# Altium integrated library Analog Devices Data Converters Digital-to-Analog Converters.IntLib: 2231 symbols (part 98 of 181)
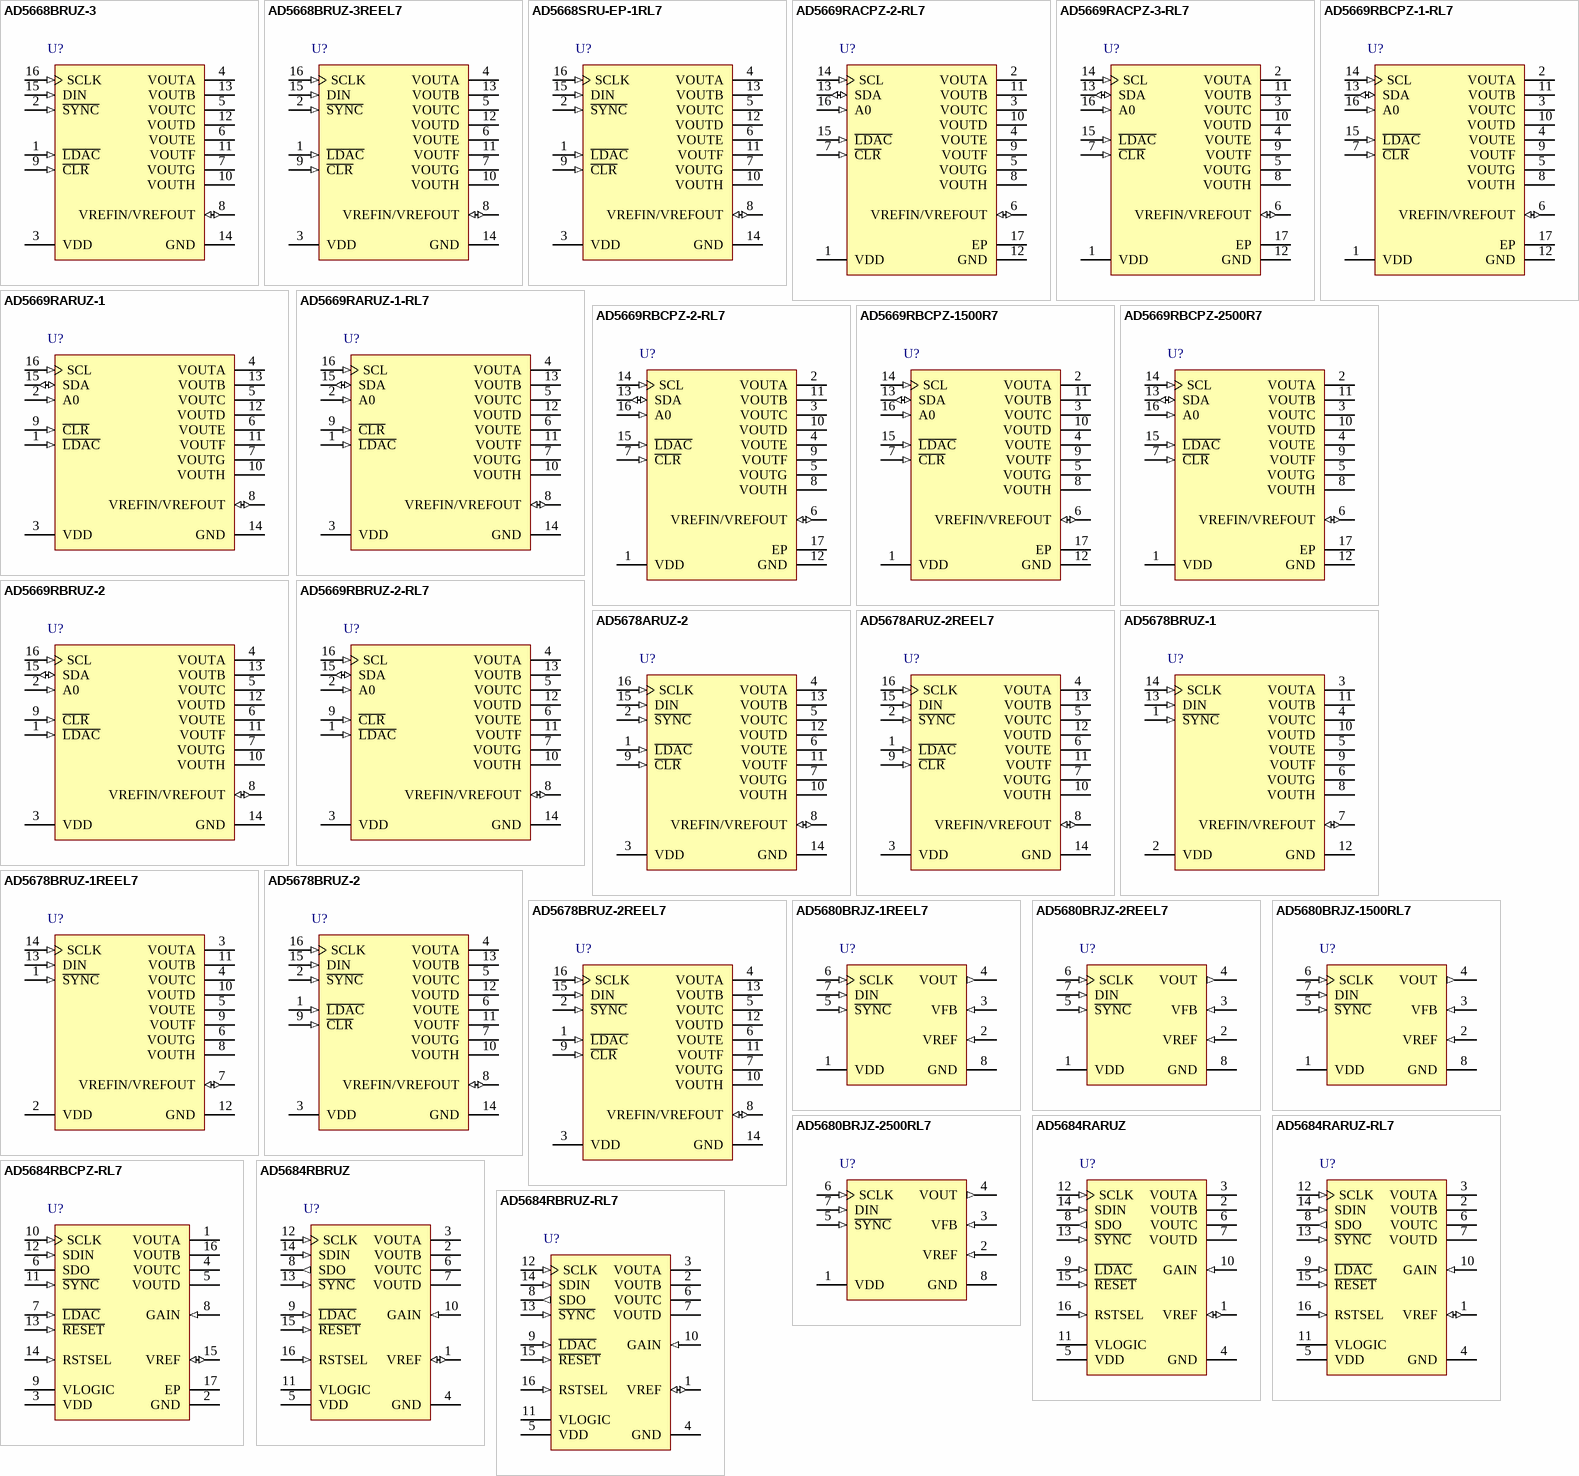
[diagram p211: symbols AD5668BRUZ-3 to AD5684RBRUZ-RL7]

## AD5678BRUZ-2
designator U?
Octal Quad 12-Bit and Quad 16-Bit Digital-to-Analog Converter with On-Chip Reference, -40 to +105 degC, RU-16, Pb-Free, Tube; Generic Part Number: AD5678; Manufacturer: Analog Devices; PartNumber: AD5678BRUZ-2; # DAC Outputs: 8; Max V+: 5.5V; Op Pwr Diss: 12.5mW; Resolution (Bits): 16; Settling Time: 6µs; Single Supply: Yes; DatasheetVersion: Rev.C; PackageVersion: Nov-2002; PackageReference: RU-16; PackageDescription: 16-Lead Thin Shrink Small Outline Package [TSSOP]; Supplier 1: Digi-Key; Supplier Part Number 1: AD5678BRUZ-2-ND; Supplier 2: Farnell; Supplier Part Number 2: 1438927; Supplier 3: Newark; Supplier Part Number 3: 15P0716; Supplier 4: Mouser; Supplier Part Number 4: 584-AD5678BRUZ-2; Packing: Tube; RoHS: Y; Mounting Technology: Surface Mount; Code_JEDEC: MO-153-AB; ComponentLink1Description: Manufacturer URL; ComponentLink1URL: http://www.analog.com/en/index.html; ComponentLink2Description: Datasheet; ComponentLink2URL: http://www.analog.com/static/imported-files/data_sheets/AD5678.pdf; ComponentLink3Description: Package Specification; ComponentLink3URL: http://www.analog.com/static/imported-files/packages/36244347913743854010197452789RU16.pdf; ComponentLink4Description: Product URL; ComponentLink4URL: http://www.analog.com/en/digital-to-analog-converters/da-converters/ad5678/products/product.html
footprint RU-16_N (TSOP, 16-Leads, Body 5x4.4mm, Pitch 0.65mm, IPC Medium Density)
footprint RU-16_L (TSOP, 16-Leads, Body 5x4.4mm, Pitch 0.65mm, IPC High Density)
footprint RU-16_M (TSOP, 16-Leads, Body 5x4.4mm, Pitch 0.65mm, IPC Low Density)
pins: 1 ~{LDAC} (in) "Pulsing this pin low allows any or all DAC registers to be updated if the input registers have new data. This allows all DAC outputs to simultaneously update. Alternatively, this pin can be tied permanently low.", 2 ~{SYNC} (in) "Active Low Control Input. This is the frame synchronization signal for the input data. When S\Y\N\C\ goes low, it powers on the SCLK and DIN buffers and enables the input shift register. Data is transferred in on the falling (See Datasheet)", 3 VDD (power) "Power Supply Input. These parts can be operated from 2.7 V to 5.5 V, and the supply should be decoupled with a 10 uF capacitor in parallel with a 0.1 uF capacitor to GND.", 4 VOUTA (hiz) "Analog Output Voltage from DAC A. The output amplifier has rail-to-rail operation.", 5 VOUTC (hiz) "Analog Output Voltage from DAC C. The output amplifier has rail-to-rail operation.", 6 VOUTE (hiz) "Analog Output Voltage from DAC E. The output amplifier has rail-to-rail operation.", 7 VOUTG (hiz) "Analog Output Voltage from DAC G. The output amplifier has rail-to-rail operation.", 8 VREFIN/VREFOUT (io) "The AD5678 has a common pin for reference input and reference output. When using the internal reference, this is the reference output pin. When using an external reference, this is the reference input pin. The default for (See Datasheet)", 9 ~{CLR} (in) "Asynchronous Clear Input. The C\L\R\ input is falling edge sensitive. When C\L\R\ is low, all L\D\A\C\ pulses are ignored. When C\L\R\ is activated, the input register and the DAC register are updated with the data contained (See Datasheet)", 10 VOUTH (hiz) "Analog Output Voltage from DAC H. The output amplifier has rail-to-rail operation.", 11 VOUTF (hiz) "Analog Output Voltage from DAC F. The output amplifier has rail-to-rail operation.", 12 VOUTD (hiz) "Analog Output Voltage from DAC D. The output amplifier has rail-to-rail operation.", 13 VOUTB (hiz) "Analog Output Voltage from DAC B. The output amplifier has rail-to-rail operation.", 14 GND (power) "Ground Reference Point for All Circuitry on the Part.", 15 DIN (in) "Serial Data Input. This device has a 32-bit shift register. Data is clocked into the register on the falling edge of the serial clock input.", 16 SCLK (in) "Serial Clock Input. Data is clocked into the input shift register on the falling edge of the serial clock input. Data can be transferred at rates of up to 50 MHz."

## AD5678BRUZ-2REEL7
designator U?
Octal Quad 12-Bit and Quad 16-Bit Digital-to-Analog Converter with On-Chip Reference, -40 to +105 degC, RU-16, Pb-Free, Reel; Generic Part Number: AD5678; Manufacturer: Analog Devices; PartNumber: AD5678BRUZ-2REEL7; # DAC Outputs: 8; Max V+: 5.5V; Op Pwr Diss: 12.5mW; Resolution (Bits): 16; Settling Time: 6µs; Single Supply: Yes; DatasheetVersion: Rev.C; PackageVersion: Nov-2002; PackageReference: RU-16; PackageDescription: 16-Lead Thin Shrink Small Outline Package [TSSOP]; Supplier 1: Digi-Key; Supplier Part Number 1: AD5678BRUZ-2REEL7-ND; Supplier 2: Mouser; Supplier Part Number 2: 584-AD5678BRUZ-2R7; Packing: Reel; RoHS: Y; Mounting Technology: Surface Mount; Code_JEDEC: MO-153-AB; ComponentLink1Description: Manufacturer URL; ComponentLink1URL: http://www.analog.com/en/index.html; ComponentLink2Description: Datasheet; ComponentLink2URL: http://www.analog.com/static/imported-files/data_sheets/AD5678.pdf; ComponentLink3Description: Package Specification; ComponentLink3URL: http://www.analog.com/static/imported-files/packages/36244347913743854010197452789RU16.pdf; ComponentLink4Description: Product URL; ComponentLink4URL: http://www.analog.com/en/digital-to-analog-converters/da-converters/ad5678/products/product.html
footprint RU-16_N (TSOP, 16-Leads, Body 5x4.4mm, Pitch 0.65mm, IPC Medium Density)
footprint RU-16_L (TSOP, 16-Leads, Body 5x4.4mm, Pitch 0.65mm, IPC High Density)
footprint RU-16_M (TSOP, 16-Leads, Body 5x4.4mm, Pitch 0.65mm, IPC Low Density)
pins: 1 ~{LDAC} (in) "Pulsing this pin low allows any or all DAC registers to be updated if the input registers have new data. This allows all DAC outputs to simultaneously update. Alternatively, this pin can be tied permanently low.", 2 ~{SYNC} (in) "Active Low Control Input. This is the frame synchronization signal for the input data. When S\Y\N\C\ goes low, it powers on the SCLK and DIN buffers and enables the input shift register. Data is transferred in on the falling (See Datasheet)", 3 VDD (power) "Power Supply Input. These parts can be operated from 2.7 V to 5.5 V, and the supply should be decoupled with a 10 uF capacitor in parallel with a 0.1 uF capacitor to GND.", 4 VOUTA (hiz) "Analog Output Voltage from DAC A. The output amplifier has rail-to-rail operation.", 5 VOUTC (hiz) "Analog Output Voltage from DAC C. The output amplifier has rail-to-rail operation.", 6 VOUTE (hiz) "Analog Output Voltage from DAC E. The output amplifier has rail-to-rail operation.", 7 VOUTG (hiz) "Analog Output Voltage from DAC G. The output amplifier has rail-to-rail operation.", 8 VREFIN/VREFOUT (io) "The AD5678 has a common pin for reference input and reference output. When using the internal reference, this is the reference output pin. When using an external reference, this is the reference input pin. The default for (See Datasheet)", 9 ~{CLR} (in) "Asynchronous Clear Input. The C\L\R\ input is falling edge sensitive. When C\L\R\ is low, all L\D\A\C\ pulses are ignored. When C\L\R\ is activated, the input register and the DAC register are updated with the data contained (See Datasheet)", 10 VOUTH (hiz) "Analog Output Voltage from DAC H. The output amplifier has rail-to-rail operation.", 11 VOUTF (hiz) "Analog Output Voltage from DAC F. The output amplifier has rail-to-rail operation.", 12 VOUTD (hiz) "Analog Output Voltage from DAC D. The output amplifier has rail-to-rail operation.", 13 VOUTB (hiz) "Analog Output Voltage from DAC B. The output amplifier has rail-to-rail operation.", 14 GND (power) "Ground Reference Point for All Circuitry on the Part.", 15 DIN (in) "Serial Data Input. This device has a 32-bit shift register. Data is clocked into the register on the falling edge of the serial clock input.", 16 SCLK (in) "Serial Clock Input. Data is clocked into the input shift register on the falling edge of the serial clock input. Data can be transferred at rates of up to 50 MHz."

## AD5680BRJZ-1REEL7
designator U?
Single 18-Bit nanoDAC, 5 V, -40 to +105 degC, RJ-8, Pb-Free, Reel; Generic Part Number: AD5680; Manufacturer: Analog Devices; PartNumber: AD5680BRJZ-1REEL7; # DAC Outputs: 1; Max V+: 5.5V; Op Pwr Diss: 2.25mW; Resolution (Bits): 18; Settling Time: 80µs; Single Supply: Yes; DatasheetVersion: Rev.A; PackageVersion: 121608-A; PackageReference: RJ-8; PackageDescription: 8-Lead Thin Small Outline Transistor Package [SOT-23]; Supplier 1: Mouser; Supplier Part Number 1: N/A; Packing: Reel; RoHS: Y; Mounting Technology: Surface Mount; Code_JEDEC: MO-178-BA; ComponentLink1Description: Manufacturer URL; ComponentLink1URL: http://www.analog.com/en/index.html; ComponentLink2Description: Datasheet; ComponentLink2URL: http://www.analog.com/static/imported-files/data_sheets/AD5680.pdf; ComponentLink3Description: Package Specification; ComponentLink3URL: http://www.analog.com/static/imported-files/packages/PKG_PDF/SOT-23(RJ)/RJ_8.pdf; ComponentLink4Description: Product URL; ComponentLink4URL: http://www.analog.com/en/digital-to-analog-converters/da-converters/ad5680/products/product.html
footprint RJ-8_N (SOP, 8-Leads, Body 2.9x1.6mm, Pitch 0.65mm, IPC Medium Density)
footprint RJ-8_L (SOP, 8-Leads, Body 2.9x1.6mm, Pitch 0.65mm, IPC High Density)
footprint RJ-8_M (SOP, 8-Leads, Body 2.9x1.6mm, Pitch 0.65mm, IPC Low Density)
pins: 1 VDD (power) "Power Supply Input. The part can be operated from 4.5 V to 5.5 V. VDD should be decoupled to GND.", 2 VREF (in) "Reference Voltage Input.", 3 VFB (in) "Feedback Connection for the Output Amplifier. VFB should be connected to VOUT for normal operation.", 4 VOUT (out) "Analog Output Voltage from DAC. The output amplifier has rail-to-rail operation.", 5 ~{SYNC} (in) "Level-Triggered Control Input (Active Low). This is the frame synchronization signal for the input data. When S\Y\N\C\ goes low, it enables the input shift register and data is transferred in on the falling edges of the (See Datasheet)", 6 SCLK (in) "Serial Clock Input. Data is clocked into the input shift register on the falling edge of the serial clock input. Data can be transferred at rates up to 30 MHz.", 7 DIN (in) "Serial Data Input. This device has a 24-bit shift register. Data is clocked into the register on the falling edge of the serial clock input.", 8 GND (power) "Ground. Ground reference point for all circuitry on the part."

## AD5680BRJZ-2REEL7
designator U?
Single 18-Bit nanoDAC, 5 V, -40 to +105 degC, RJ-8, Pb-Free, Reel; Generic Part Number: AD5680; Manufacturer: Analog Devices; PartNumber: AD5680BRJZ-2REEL7; # DAC Outputs: 1; Max V+: 5.5V; Op Pwr Diss: 2.25mW; Resolution (Bits): 18; Settling Time: 80µs; Single Supply: Yes; DatasheetVersion: Rev.A; PackageVersion: 121608-A; PackageReference: RJ-8; PackageDescription: 8-Lead Thin Small Outline Transistor Package [SOT-23]; Supplier 1: Digi-Key; Supplier Part Number 1: AD5680BRJZ-2REEL7TR-ND; Supplier 2: Digi-Key; Supplier Part Number 2: AD5680BRJZ-2REEL7CT-ND; Supplier 3: Digi-Key; Supplier Part Number 3: AD5680BRJZ-2REEL7DKR-ND; Supplier 4: Farnell; Supplier Part Number 4: 2314133; Supplier 5: Newark; Supplier Part Number 5: 67W3169; Supplier 6: Newark; Supplier Part Number 6: 12M8677; Supplier 7: Mouser; Supplier Part Number 7: 584-AD5680BRJZ-2R7; Packing: Reel; RoHS: Y; Mounting Technology: Surface Mount; Code_JEDEC: MO-178-BA; ComponentLink1Description: Manufacturer URL; ComponentLink1URL: http://www.analog.com/en/index.html; ComponentLink2Description: Datasheet; ComponentLink2URL: http://www.analog.com/static/imported-files/data_sheets/AD5680.pdf; ComponentLink3Description: Package Specification; ComponentLink3URL: http://www.analog.com/static/imported-files/packages/PKG_PDF/SOT-23(RJ)/RJ_8.pdf; ComponentLink4Description: Product URL; ComponentLink4URL: http://www.analog.com/en/digital-to-analog-converters/da-converters/ad5680/products/product.html
footprint RJ-8_N (SOP, 8-Leads, Body 2.9x1.6mm, Pitch 0.65mm, IPC Medium Density)
footprint RJ-8_L (SOP, 8-Leads, Body 2.9x1.6mm, Pitch 0.65mm, IPC High Density)
footprint RJ-8_M (SOP, 8-Leads, Body 2.9x1.6mm, Pitch 0.65mm, IPC Low Density)
pins: 1 VDD (power) "Power Supply Input. The part can be operated from 4.5 V to 5.5 V. VDD should be decoupled to GND.", 2 VREF (in) "Reference Voltage Input.", 3 VFB (in) "Feedback Connection for the Output Amplifier. VFB should be connected to VOUT for normal operation.", 4 VOUT (out) "Analog Output Voltage from DAC. The output amplifier has rail-to-rail operation.", 5 ~{SYNC} (in) "Level-Triggered Control Input (Active Low). This is the frame synchronization signal for the input data. When S\Y\N\C\ goes low, it enables the input shift register and data is transferred in on the falling edges of the (See Datasheet)", 6 SCLK (in) "Serial Clock Input. Data is clocked into the input shift register on the falling edge of the serial clock input. Data can be transferred at rates up to 30 MHz.", 7 DIN (in) "Serial Data Input. This device has a 24-bit shift register. Data is clocked into the register on the falling edge of the serial clock input.", 8 GND (power) "Ground. Ground reference point for all circuitry on the part."

## AD5680BRJZ-1500RL7
designator U?
Single 18-Bit nanoDAC, 5 V, -40 to +105 degC, RJ-8, Pb-Free, Reel; Generic Part Number: AD5680; Manufacturer: Analog Devices; PartNumber: AD5680BRJZ-1500RL7; # DAC Outputs: 1; Max V+: 5.5V; Op Pwr Diss: 2.25mW; Resolution (Bits): 18; Settling Time: 80µs; Single Supply: Yes; DatasheetVersion: Rev.A; PackageVersion: 121608-A; PackageReference: RJ-8; PackageDescription: 8-Lead Thin Small Outline Transistor Package [SOT-23]; Supplier 1: Digi-Key; Supplier Part Number 1: AD5680BRJZ-1500RL7TR-ND; Supplier 2: Digi-Key; Supplier Part Number 2: AD5680BRJZ-1500RL7CT-ND; Supplier 3: Digi-Key; Supplier Part Number 3: AD5680BRJZ-1500RL7DKR-ND; Supplier 4: Mouser; Supplier Part Number 4: 584-AD5680BRJZ1500R7; Packing: Reel; RoHS: Y; Mounting Technology: Surface Mount; Code_JEDEC: MO-178-BA; ComponentLink1Description: Manufacturer URL; ComponentLink1URL: http://www.analog.com/en/index.html; ComponentLink2Description: Datasheet; ComponentLink2URL: http://www.analog.com/static/imported-files/data_sheets/AD5680.pdf; ComponentLink3Description: Package Specification; ComponentLink3URL: http://www.analog.com/static/imported-files/packages/PKG_PDF/SOT-23(RJ)/RJ_8.pdf; ComponentLink4Description: Product URL; ComponentLink4URL: http://www.analog.com/en/digital-to-analog-converters/da-converters/ad5680/products/product.html
footprint RJ-8_N (SOP, 8-Leads, Body 2.9x1.6mm, Pitch 0.65mm, IPC Medium Density)
footprint RJ-8_L (SOP, 8-Leads, Body 2.9x1.6mm, Pitch 0.65mm, IPC High Density)
footprint RJ-8_M (SOP, 8-Leads, Body 2.9x1.6mm, Pitch 0.65mm, IPC Low Density)
pins: 1 VDD (power) "Power Supply Input. The part can be operated from 4.5 V to 5.5 V. VDD should be decoupled to GND.", 2 VREF (in) "Reference Voltage Input.", 3 VFB (in) "Feedback Connection for the Output Amplifier. VFB should be connected to VOUT for normal operation.", 4 VOUT (out) "Analog Output Voltage from DAC. The output amplifier has rail-to-rail operation.", 5 ~{SYNC} (in) "Level-Triggered Control Input (Active Low). This is the frame synchronization signal for the input data. When S\Y\N\C\ goes low, it enables the input shift register and data is transferred in on the falling edges of the (See Datasheet)", 6 SCLK (in) "Serial Clock Input. Data is clocked into the input shift register on the falling edge of the serial clock input. Data can be transferred at rates up to 30 MHz.", 7 DIN (in) "Serial Data Input. This device has a 24-bit shift register. Data is clocked into the register on the falling edge of the serial clock input.", 8 GND (power) "Ground. Ground reference point for all circuitry on the part."

## AD5680BRJZ-2500RL7
designator U?
Single 18-Bit nanoDAC, 5 V, -40 to +105 degC, RJ-8, Pb-Free, Reel; Generic Part Number: AD5680; Manufacturer: Analog Devices; PartNumber: AD5680BRJZ-2500RL7; # DAC Outputs: 1; Max V+: 5.5V; Op Pwr Diss: 2.25mW; Resolution (Bits): 18; Settling Time: 80µs; Single Supply: Yes; DatasheetVersion: Rev.A; PackageVersion: 121608-A; PackageReference: RJ-8; PackageDescription: 8-Lead Thin Small Outline Transistor Package [SOT-23]; Supplier 1: Digi-Key; Supplier Part Number 1: AD5680BRJZ-2500RL7TR-ND; Supplier 2: Digi-Key; Supplier Part Number 2: AD5680BRJZ-2500RL7CT-ND; Supplier 3: Digi-Key; Supplier Part Number 3: AD5680BRJZ-2500RL7DKR-ND; Supplier 4: Newark; Supplier Part Number 4: 12M8678; Supplier 5: Mouser; Supplier Part Number 5: 584-AD5680BRJZ2500R7; Packing: Reel; RoHS: Y; Mounting Technology: Surface Mount; Code_JEDEC: MO-178-BA; ComponentLink1Description: Manufacturer URL; ComponentLink1URL: http://www.analog.com/en/index.html; ComponentLink2Description: Datasheet; ComponentLink2URL: http://www.analog.com/static/imported-files/data_sheets/AD5680.pdf; ComponentLink3Description: Package Specification; ComponentLink3URL: http://www.analog.com/static/imported-files/packages/PKG_PDF/SOT-23(RJ)/RJ_8.pdf; ComponentLink4Description: Product URL; ComponentLink4URL: http://www.analog.com/en/digital-to-analog-converters/da-converters/ad5680/products/product.html
footprint RJ-8_N (SOP, 8-Leads, Body 2.9x1.6mm, Pitch 0.65mm, IPC Medium Density)
footprint RJ-8_L (SOP, 8-Leads, Body 2.9x1.6mm, Pitch 0.65mm, IPC High Density)
footprint RJ-8_M (SOP, 8-Leads, Body 2.9x1.6mm, Pitch 0.65mm, IPC Low Density)
pins: 1 VDD (power) "Power Supply Input. The part can be operated from 4.5 V to 5.5 V. VDD should be decoupled to GND.", 2 VREF (in) "Reference Voltage Input.", 3 VFB (in) "Feedback Connection for the Output Amplifier. VFB should be connected to VOUT for normal operation.", 4 VOUT (out) "Analog Output Voltage from DAC. The output amplifier has rail-to-rail operation.", 5 ~{SYNC} (in) "Level-Triggered Control Input (Active Low). This is the frame synchronization signal for the input data. When S\Y\N\C\ goes low, it enables the input shift register and data is transferred in on the falling edges of the (See Datasheet)", 6 SCLK (in) "Serial Clock Input. Data is clocked into the input shift register on the falling edge of the serial clock input. Data can be transferred at rates up to 30 MHz.", 7 DIN (in) "Serial Data Input. This device has a 24-bit shift register. Data is clocked into the register on the falling edge of the serial clock input.", 8 GND (power) "Ground. Ground reference point for all circuitry on the part."

## AD5684RARUZ
designator U?
Quad 12-Bit nanoDAC+ with SPI Interface and 2 ppm/degC On-Chip Reference, -40 to +105 degC, RU-16, Pb-Free, Tube; Generic Part Number: AD5684R; Manufacturer: Analog Devices; PartNumber: AD5684RARUZ; # DAC Outputs: 4; Max V+: 5.5V; Resolution (Bits): 12; Settling Time: 5µs; Single Supply: Yes; DatasheetVersion: Rev.0; PackageVersion: Nov-2002; PackageReference: RU-16; PackageDescription: 16-Lead Thin Shrink Small Outline Package [TSSOP]; Supplier 1: Digi-Key; Supplier Part Number 1: AD5684RARUZ-ND; Supplier 2: Farnell; Supplier Part Number 2: 2112657; Supplier 3: Newark; Supplier Part Number 3: 94T0022; Supplier 4: Mouser; Supplier Part Number 4: 584-AD5684RARUZ; Packing: Tube; RoHS: Y; Mounting Technology: Surface Mount; Code_JEDEC: MO-153-AB; ComponentLink1Description: Manufacturer URL; ComponentLink1URL: http://www.analog.com/en/index.html; ComponentLink2Description: Datasheet; ComponentLink2URL: http://www.analog.com/static/imported-files/data_sheets/AD5686R_AD5685R_AD5684R.pdf; ComponentLink3Description: Package Specification; ComponentLink3URL: http://www.analog.com/static/imported-files/packages/36244347913743854010197452789RU16.pdf; ComponentLink4Description: Product URL; ComponentLink4URL: http://www.analog.com/en/digital-to-analog-converters/da-converters/ad5684r/products/product.html
footprint RU-16_N (TSOP, 16-Leads, Body 5x4.4mm, Pitch 0.65mm, IPC Medium Density)
footprint RU-16_L (TSOP, 16-Leads, Body 5x4.4mm, Pitch 0.65mm, IPC High Density)
footprint RU-16_M (TSOP, 16-Leads, Body 5x4.4mm, Pitch 0.65mm, IPC Low Density)
pins: 1 VREF (io) "Reference Voltage. The AD5684R have a common reference pin. When using the internal reference, this is the reference output pin. When using an external reference, this is the reference input pin. The default for this pin is (See Datasheet)", 2 VOUTB (hiz) "Analog Output Voltage from DAC B. The output amplifier has rail-to-rail operation.", 3 VOUTA (hiz) "Analog Output Voltage from DAC A. The output amplifier has rail-to-rail operation.", 4 GND (power) "Ground Reference Point for All Circuitry on the Part.", 5 VDD (power) "Power Supply Input. These parts can be operated from 2.7 V to 5.5 V, and the supply should be decoupled with a 10 uF capacitor in parallel with a 0.1 uF capacitor to GND.", 6 VOUTC (hiz) "Analog Output Voltage from DAC C. The output amplifier has rail-to-rail operation.", 7 VOUTD (hiz) "Analog Output Voltage from DAC D. The output amplifier has rail-to-rail operation.", 8 SDO (out) "Serial Data Output. Can be used to daisy-chain a number of AD5684R devices together or can be used for readback. The serial data is transferred on the rising edge of SCLK and is valid on the falling edge of the clock.", 9 ~{LDAC} (in) "L\D\A\C\ can be operated in two modes, asynchronously and synchronously. Pulsing this pin low allows any or all DAC registers to be updated if the input registers have new data. This allows all DAC outputs to simultaneously (See Datasheet)", 10 GAIN (in) "Span Set Pin. When this pin is tied to GND, all four DAC outputs have a span from 0 V to VREF. If this pin is tied to VDD, all four DACs output a span of 0 V to 2 x VREF.", 11 VLOGIC (power) "Digital Power Supply. Voltage ranges from 1.8 V to 5.5 V.", 12 SCLK (in) "Serial Clock Input. Data is clocked into the input shift register on the falling edge of the serial clock input. Data can be transferred at rates of up to 50 MHz.", 13 ~{SYNC} (in) "Active Low Control Input. This is the frame synchronization signal for the input data. When S\Y\N\C\ goes low, data is transferred in on the falling edges of the next 24 clocks.", 14 SDIN (in) "Serial Data Input. This device has a 24-bit input shift register. Data is clocked into the register on the falling edge of the serial clock input.", 15 ~{RESET} (in) "Asynchronous Reset Input. The R\E\S\E\T\ input is falling edge sensitive. When R\E\S\E\T\ is low, all L\D\A\C\ pulses are ignored. When R\E\S\E\T\ is activated, the input register and the DAC register are updated with zero (See Datasheet)", 16 RSTSEL (in) "Power-On Reset Pin. Tying this pin to GND powers up all four DACs to zero scale. Tying this pin to VDD powers up all four DACs to midscale."

## AD5684RARUZ-RL7
designator U?
Quad 12-Bit nanoDAC+ with SPI Interface and 2 ppm/degC On-Chip Reference, -40 to +105 degC, RU-16, Pb-Free, Reel; Generic Part Number: AD5684R; Manufacturer: Analog Devices; PartNumber: AD5684RARUZ-RL7; # DAC Outputs: 4; Max V+: 5.5V; Resolution (Bits): 12; Settling Time: 5µs; Single Supply: Yes; DatasheetVersion: Rev.0; PackageVersion: Nov-2002; PackageReference: RU-16; PackageDescription: 16-Lead Thin Shrink Small Outline Package [TSSOP]; Supplier 1: Digi-Key; Supplier Part Number 1: AD5684RARUZ-RL7-ND; Supplier 2: Mouser; Supplier Part Number 2: 584-AD5684RARUZ-R7; Packing: Reel; RoHS: Y; Mounting Technology: Surface Mount; Code_JEDEC: MO-153-AB; ComponentLink1Description: Manufacturer URL; ComponentLink1URL: http://www.analog.com/en/index.html; ComponentLink2Description: Datasheet; ComponentLink2URL: http://www.analog.com/static/imported-files/data_sheets/AD5686R_AD5685R_AD5684R.pdf; ComponentLink3Description: Package Specification; ComponentLink3URL: http://www.analog.com/static/imported-files/packages/36244347913743854010197452789RU16.pdf; ComponentLink4Description: Product URL; ComponentLink4URL: http://www.analog.com/en/digital-to-analog-converters/da-converters/ad5684r/products/product.html
footprint RU-16_N (TSOP, 16-Leads, Body 5x4.4mm, Pitch 0.65mm, IPC Medium Density)
footprint RU-16_L (TSOP, 16-Leads, Body 5x4.4mm, Pitch 0.65mm, IPC High Density)
footprint RU-16_M (TSOP, 16-Leads, Body 5x4.4mm, Pitch 0.65mm, IPC Low Density)
pins: 1 VREF (io) "Reference Voltage. The AD5684R have a common reference pin. When using the internal reference, this is the reference output pin. When using an external reference, this is the reference input pin. The default for this pin is (See Datasheet)", 2 VOUTB (hiz) "Analog Output Voltage from DAC B. The output amplifier has rail-to-rail operation.", 3 VOUTA (hiz) "Analog Output Voltage from DAC A. The output amplifier has rail-to-rail operation.", 4 GND (power) "Ground Reference Point for All Circuitry on the Part.", 5 VDD (power) "Power Supply Input. These parts can be operated from 2.7 V to 5.5 V, and the supply should be decoupled with a 10 uF capacitor in parallel with a 0.1 uF capacitor to GND.", 6 VOUTC (hiz) "Analog Output Voltage from DAC C. The output amplifier has rail-to-rail operation.", 7 VOUTD (hiz) "Analog Output Voltage from DAC D. The output amplifier has rail-to-rail operation.", 8 SDO (out) "Serial Data Output. Can be used to daisy-chain a number of AD5684R devices together or can be used for readback. The serial data is transferred on the rising edge of SCLK and is valid on the falling edge of the clock.", 9 ~{LDAC} (in) "L\D\A\C\ can be operated in two modes, asynchronously and synchronously. Pulsing this pin low allows any or all DAC registers to be updated if the input registers have new data. This allows all DAC outputs to simultaneously (See Datasheet)", 10 GAIN (in) "Span Set Pin. When this pin is tied to GND, all four DAC outputs have a span from 0 V to VREF. If this pin is tied to VDD, all four DACs output a span of 0 V to 2 x VREF.", 11 VLOGIC (power) "Digital Power Supply. Voltage ranges from 1.8 V to 5.5 V.", 12 SCLK (in) "Serial Clock Input. Data is clocked into the input shift register on the falling edge of the serial clock input. Data can be transferred at rates of up to 50 MHz.", 13 ~{SYNC} (in) "Active Low Control Input. This is the frame synchronization signal for the input data. When S\Y\N\C\ goes low, data is transferred in on the falling edges of the next 24 clocks.", 14 SDIN (in) "Serial Data Input. This device has a 24-bit input shift register. Data is clocked into the register on the falling edge of the serial clock input.", 15 ~{RESET} (in) "Asynchronous Reset Input. The R\E\S\E\T\ input is falling edge sensitive. When R\E\S\E\T\ is low, all L\D\A\C\ pulses are ignored. When R\E\S\E\T\ is activated, the input register and the DAC register are updated with zero (See Datasheet)", 16 RSTSEL (in) "Power-On Reset Pin. Tying this pin to GND powers up all four DACs to zero scale. Tying this pin to VDD powers up all four DACs to midscale."

## AD5684RBCPZ-RL7
designator U?
Quad 12-Bit nanoDAC+ with SPI Interface and 2 ppm/degC On-Chip Reference, -40 to +105 degC, CP-16-22, Pb-Free, Reel; Generic Part Number: AD5684R; Manufacturer: Analog Devices; PartNumber: AD5684RBCPZ-RL7; # DAC Outputs: 4; Max V+: 5.5V; Resolution (Bits): 12; Settling Time: 5µs; Single Supply: Yes; DatasheetVersion: Rev.0; PackageVersion: 111808-A; PackageReference: CP-16-22; PackageDescription: 16-Lead Lead Frame Chip Scale Package [LFCSP_WQ] 3 x 3 mm Body, Very Very Thin Quad; Supplier 1: Digi-Key; Supplier Part Number 1: AD5684RBCPZ-RL7TR-ND; Supplier 2: Digi-Key; Supplier Part Number 2: AD5684RBCPZ-RL7CT-ND; Supplier 3: Digi-Key; Supplier Part Number 3: AD5684RBCPZ-RL7DKR-ND; Supplier 4: Newark; Supplier Part Number 4: 94T0024; Supplier 5: Mouser; Supplier Part Number 5: 584-AD5684RBCPZ-R7; Packing: Reel; RoHS: Y; Mounting Technology: Surface Mount; Code_JEDEC: MO-220-WEED; ComponentLink1Description: Manufacturer URL; ComponentLink1URL: http://www.analog.com/en/index.html; ComponentLink2Description: Datasheet; ComponentLink2URL: http://www.analog.com/static/imported-files/data_sheets/AD5686R_AD5685R_AD5684R.pdf; ComponentLink3Description: Package Specification; ComponentLink3URL: http://www.analog.com/static/imported-files/packages/PKG_PDF/LFCSP(CP)/CP-16/CP_16_22.pdf; ComponentLink4Description: Product URL; ComponentLink4URL: http://www.analog.com/en/digital-to-analog-converters/da-converters/ad5684r/products/product.html
footprint CP-16-22_N (QFN, 16-Leads, Body 3x3mm, Pitch 0.5mm, Thermal Pad 1.75x1.75mm, IPC Medium Density)
footprint CP-16-22_L (QFN, 16-Leads, Body 3x3mm, Pitch 0.5mm, Thermal Pad 1.75x1.75mm, IPC High Density)
footprint CP-16-22_M (QFN, 16-Leads, Body 3x3mm, Pitch 0.5mm, Thermal Pad 1.75x1.75mm, IPC Low Density)
pins: 1 VOUTA (hiz) "Analog Output Voltage from DAC A. The output amplifier has rail-to-rail operation.", 2 GND (power) "Ground Reference Point for All Circuitry on the Part.", 3 VDD (power) "Power Supply Input. These parts can be operated from 2.7 V to 5.5 V, and the supply should be decoupled with a 10 uF capacitor in parallel with a 0.1 uF capacitor to GND.", 4 VOUTC (hiz) "Analog Output Voltage from DAC C. The output amplifier has rail-to-rail operation.", 5 VOUTD (hiz) "Analog Output Voltage from DAC D. The output amplifier has rail-to-rail operation.", 6 SDO (hiz) "Serial Data Output. Can be used to daisy-chain a number of AD5684R devices together or can be used for readback. The serial data is transferred on the rising edge of SCLK and is valid on the falling edge of the clock.", 7 ~{LDAC} (in) "L\D\A\C\ can be operated in two modes, asynchronously and synchronously. Pulsing this pin low allows any or all DAC registers to be updated if the input registers have new data. This allows all DAC outputs to simultaneously (See Datasheet)", 8 GAIN (in) "Span Set Pin. When this pin is tied to GND, all four DAC outputs have a span from 0 V to VREF. If this pin is tied to VDD, all four DACs output a span of 0 V to 2 x VREF.", 9 VLOGIC (power) "Digital Power Supply. Voltage ranges from 1.8 V to 5.5 V.", 10 SCLK (in) "Serial Clock Input. Data is clocked into the input shift register on the falling edge of the serial clock input. Data can be transferred at rates of up to 50 MHz.", 11 ~{SYNC} (in) "Active Low Control Input. This is the frame synchronization signal for the input data. When S\Y\N\C\ goes low, data is transferred in on the falling edges of the next 24 clocks.", 12 SDIN (in) "Serial Data Input. This device has a 24-bit input shift register. Data is clocked into the register on the falling edge of the serial clock input.", 13 ~{RESET} (in) "Asynchronous Reset Input. The R\E\S\E\T\ input is falling edge sensitive. When R\E\S\E\T\ is low, all L\D\A\C\ pulses are ignored. When R\E\S\E\T\ is activated, the input register and the DAC register are updated with zero (See Datasheet)", 14 RSTSEL (in) "Power-On Reset Pin. Tying this pin to GND powers up all four DACs to zero scale. Tying this pin to VDD powers up all four DACs to midscale.", 15 VREF (io) "Reference Voltage. The AD5684R have a common reference pin. When using the internal reference, this is the reference output pin. When using an external reference, this is the reference input pin. The default for this pin is (See Datasheet)", 16 VOUTB (hiz) "Analog Output Voltage from DAC B. The output amplifier has rail-to-rail operation.", 17 EP (power) "Exposed Pad. The exposed pad must be tied to GND."

## AD5684RBRUZ
designator U?
Quad 12-Bit nanoDAC+ with SPI Interface and 2 ppm/degC On-Chip Reference, -40 to +105 degC, RU-16, Pb-Free, Tube; Generic Part Number: AD5684R; Manufacturer: Analog Devices; PartNumber: AD5684RBRUZ; # DAC Outputs: 4; Max V+: 5.5V; Resolution (Bits): 12; Settling Time: 5µs; Single Supply: No; DatasheetVersion: Rev.0; PackageVersion: Nov-2002; PackageReference: RU-16; PackageDescription: 16-Lead Thin Shrink Small Outline Package [TSSOP]; Supplier 1: Digi-Key; Supplier Part Number 1: AD5684RBRUZ-ND; Supplier 2: Farnell; Supplier Part Number 2: 2112658; Supplier 3: Newark; Supplier Part Number 3: 94T0025; Supplier 4: Mouser; Supplier Part Number 4: 584-AD5684RBRUZ; Packing: Tube; RoHS: Y; Mounting Technology: Surface Mount; Code_JEDEC: MO-153-AB; ComponentLink1Description: Manufacturer URL; ComponentLink1URL: http://www.analog.com/en/index.html; ComponentLink2Description: Datasheet; ComponentLink2URL: http://www.analog.com/static/imported-files/data_sheets/AD5686R_AD5685R_AD5684R.pdf; ComponentLink3Description: Package Specification; ComponentLink3URL: http://www.analog.com/static/imported-files/packages/36244347913743854010197452789RU16.pdf; ComponentLink4Description: Product URL; ComponentLink4URL: http://www.analog.com/en/digital-to-analog-converters/da-converters/ad5684r/products/product.html
footprint RU-16_N (TSOP, 16-Leads, Body 5x4.4mm, Pitch 0.65mm, IPC Medium Density)
footprint RU-16_L (TSOP, 16-Leads, Body 5x4.4mm, Pitch 0.65mm, IPC High Density)
footprint RU-16_M (TSOP, 16-Leads, Body 5x4.4mm, Pitch 0.65mm, IPC Low Density)
pins: 1 VREF (io) "Reference Voltage. The AD5684R have a common reference pin. When using the internal reference, this is the reference output pin. When using an external reference, this is the reference input pin. The default for this pin is (See Datasheet)", 2 VOUTB (hiz) "Analog Output Voltage from DAC B. The output amplifier has rail-to-rail operation.", 3 VOUTA (hiz) "Analog Output Voltage from DAC A. The output amplifier has rail-to-rail operation.", 4 GND (power) "Ground Reference Point for All Circuitry on the Part.", 5 VDD (power) "Power Supply Input. These parts can be operated from 2.7 V to 5.5 V, and the supply should be decoupled with a 10 uF capacitor in parallel with a 0.1 uF capacitor to GND.", 6 VOUTC (hiz) "Analog Output Voltage from DAC C. The output amplifier has rail-to-rail operation.", 7 VOUTD (hiz) "Analog Output Voltage from DAC D. The output amplifier has rail-to-rail operation.", 8 SDO (out) "Serial Data Output. Can be used to daisy-chain a number of AD5684R devices together or can be used for readback. The serial data is transferred on the rising edge of SCLK and is valid on the falling edge of the clock.", 9 ~{LDAC} (in) "L\D\A\C\ can be operated in two modes, asynchronously and synchronously. Pulsing this pin low allows any or all DAC registers to be updated if the input registers have new data. This allows all DAC outputs to simultaneously (See Datasheet)", 10 GAIN (in) "Span Set Pin. When this pin is tied to GND, all four DAC outputs have a span from 0 V to VREF. If this pin is tied to VDD, all four DACs output a span of 0 V to 2 x VREF.", 11 VLOGIC (power) "Digital Power Supply. Voltage ranges from 1.8 V to 5.5 V.", 12 SCLK (in) "Serial Clock Input. Data is clocked into the input shift register on the falling edge of the serial clock input. Data can be transferred at rates of up to 50 MHz.", 13 ~{SYNC} (in) "Active Low Control Input. This is the frame synchronization signal for the input data. When S\Y\N\C\ goes low, data is transferred in on the falling edges of the next 24 clocks.", 14 SDIN (in) "Serial Data Input. This device has a 24-bit input shift register. Data is clocked into the register on the falling edge of the serial clock input.", 15 ~{RESET} (in) "Asynchronous Reset Input. The R\E\S\E\T\ input is falling edge sensitive. When R\E\S\E\T\ is low, all L\D\A\C\ pulses are ignored. When R\E\S\E\T\ is activated, the input register and the DAC register are updated with zero (See Datasheet)", 16 RSTSEL (in) "Power-On Reset Pin. Tying this pin to GND powers up all four DACs to zero scale. Tying this pin to VDD powers up all four DACs to midscale."

## AD5684RBRUZ-RL7
designator U?
Quad 12-Bit nanoDAC+ with SPI Interface and 2 ppm/degC On-Chip Reference, -40 to +105 degC, RU-16, Pb-Free, Reel; Generic Part Number: AD5684R; Manufacturer: Analog Devices; PartNumber: AD5684RBRUZ-RL7; # DAC Outputs: 4; Max V+: 5.5V; Resolution (Bits): 12; Settling Time: 5µs; Single Supply: No; DatasheetVersion: Rev.0; PackageVersion: Nov-2002; PackageReference: RU-16; PackageDescription: 16-Lead Thin Shrink Small Outline Package [TSSOP]; Supplier 1: Digi-Key; Supplier Part Number 1: AD5684RBRUZ-RL7-ND; Supplier 2: Mouser; Supplier Part Number 2: 584-AD5684RBRUZ-R7; Packing: Reel; RoHS: Y; Mounting Technology: Surface Mount; Code_JEDEC: MO-153-AB; ComponentLink1Description: Manufacturer URL; ComponentLink1URL: http://www.analog.com/en/index.html; ComponentLink2Description: Datasheet; ComponentLink2URL: http://www.analog.com/static/imported-files/data_sheets/AD5686R_AD5685R_AD5684R.pdf; ComponentLink3Description: Package Specification; ComponentLink3URL: http://www.analog.com/static/imported-files/packages/36244347913743854010197452789RU16.pdf; ComponentLink4Description: Product URL; ComponentLink4URL: http://www.analog.com/en/digital-to-analog-converters/da-converters/ad5684r/products/product.html
footprint RU-16_N (TSOP, 16-Leads, Body 5x4.4mm, Pitch 0.65mm, IPC Medium Density)
footprint RU-16_L (TSOP, 16-Leads, Body 5x4.4mm, Pitch 0.65mm, IPC High Density)
footprint RU-16_M (TSOP, 16-Leads, Body 5x4.4mm, Pitch 0.65mm, IPC Low Density)
pins: 1 VREF (io) "Reference Voltage. The AD5684R have a common reference pin. When using the internal reference, this is the reference output pin. When using an external reference, this is the reference input pin. The default for this pin is (See Datasheet)", 2 VOUTB (hiz) "Analog Output Voltage from DAC B. The output amplifier has rail-to-rail operation.", 3 VOUTA (hiz) "Analog Output Voltage from DAC A. The output amplifier has rail-to-rail operation.", 4 GND (power) "Ground Reference Point for All Circuitry on the Part.", 5 VDD (power) "Power Supply Input. These parts can be operated from 2.7 V to 5.5 V, and the supply should be decoupled with a 10 uF capacitor in parallel with a 0.1 uF capacitor to GND.", 6 VOUTC (hiz) "Analog Output Voltage from DAC C. The output amplifier has rail-to-rail operation.", 7 VOUTD (hiz) "Analog Output Voltage from DAC D. The output amplifier has rail-to-rail operation.", 8 SDO (out) "Serial Data Output. Can be used to daisy-chain a number of AD5684R devices together or can be used for readback. The serial data is transferred on the rising edge of SCLK and is valid on the falling edge of the clock.", 9 ~{LDAC} (in) "L\D\A\C\ can be operated in two modes, asynchronously and synchronously. Pulsing this pin low allows any or all DAC registers to be updated if the input registers have new data. This allows all DAC outputs to simultaneously (See Datasheet)", 10 GAIN (in) "Span Set Pin. When this pin is tied to GND, all four DAC outputs have a span from 0 V to VREF. If this pin is tied to VDD, all four DACs output a span of 0 V to 2 x VREF.", 11 VLOGIC (power) "Digital Power Supply. Voltage ranges from 1.8 V to 5.5 V.", 12 SCLK (in) "Serial Clock Input. Data is clocked into the input shift register on the falling edge of the serial clock input. Data can be transferred at rates of up to 50 MHz.", 13 ~{SYNC} (in) "Active Low Control Input. This is the frame synchronization signal for the input data. When S\Y\N\C\ goes low, data is transferred in on the falling edges of the next 24 clocks.", 14 SDIN (in) "Serial Data Input. This device has a 24-bit input shift register. Data is clocked into the register on the falling edge of the serial clock input.", 15 ~{RESET} (in) "Asynchronous Reset Input. The R\E\S\E\T\ input is falling edge sensitive. When R\E\S\E\T\ is low, all L\D\A\C\ pulses are ignored. When R\E\S\E\T\ is activated, the input register and the DAC register are updated with zero (See Datasheet)", 16 RSTSEL (in) "Power-On Reset Pin. Tying this pin to GND powers up all four DACs to zero scale. Tying this pin to VDD powers up all four DACs to midscale."

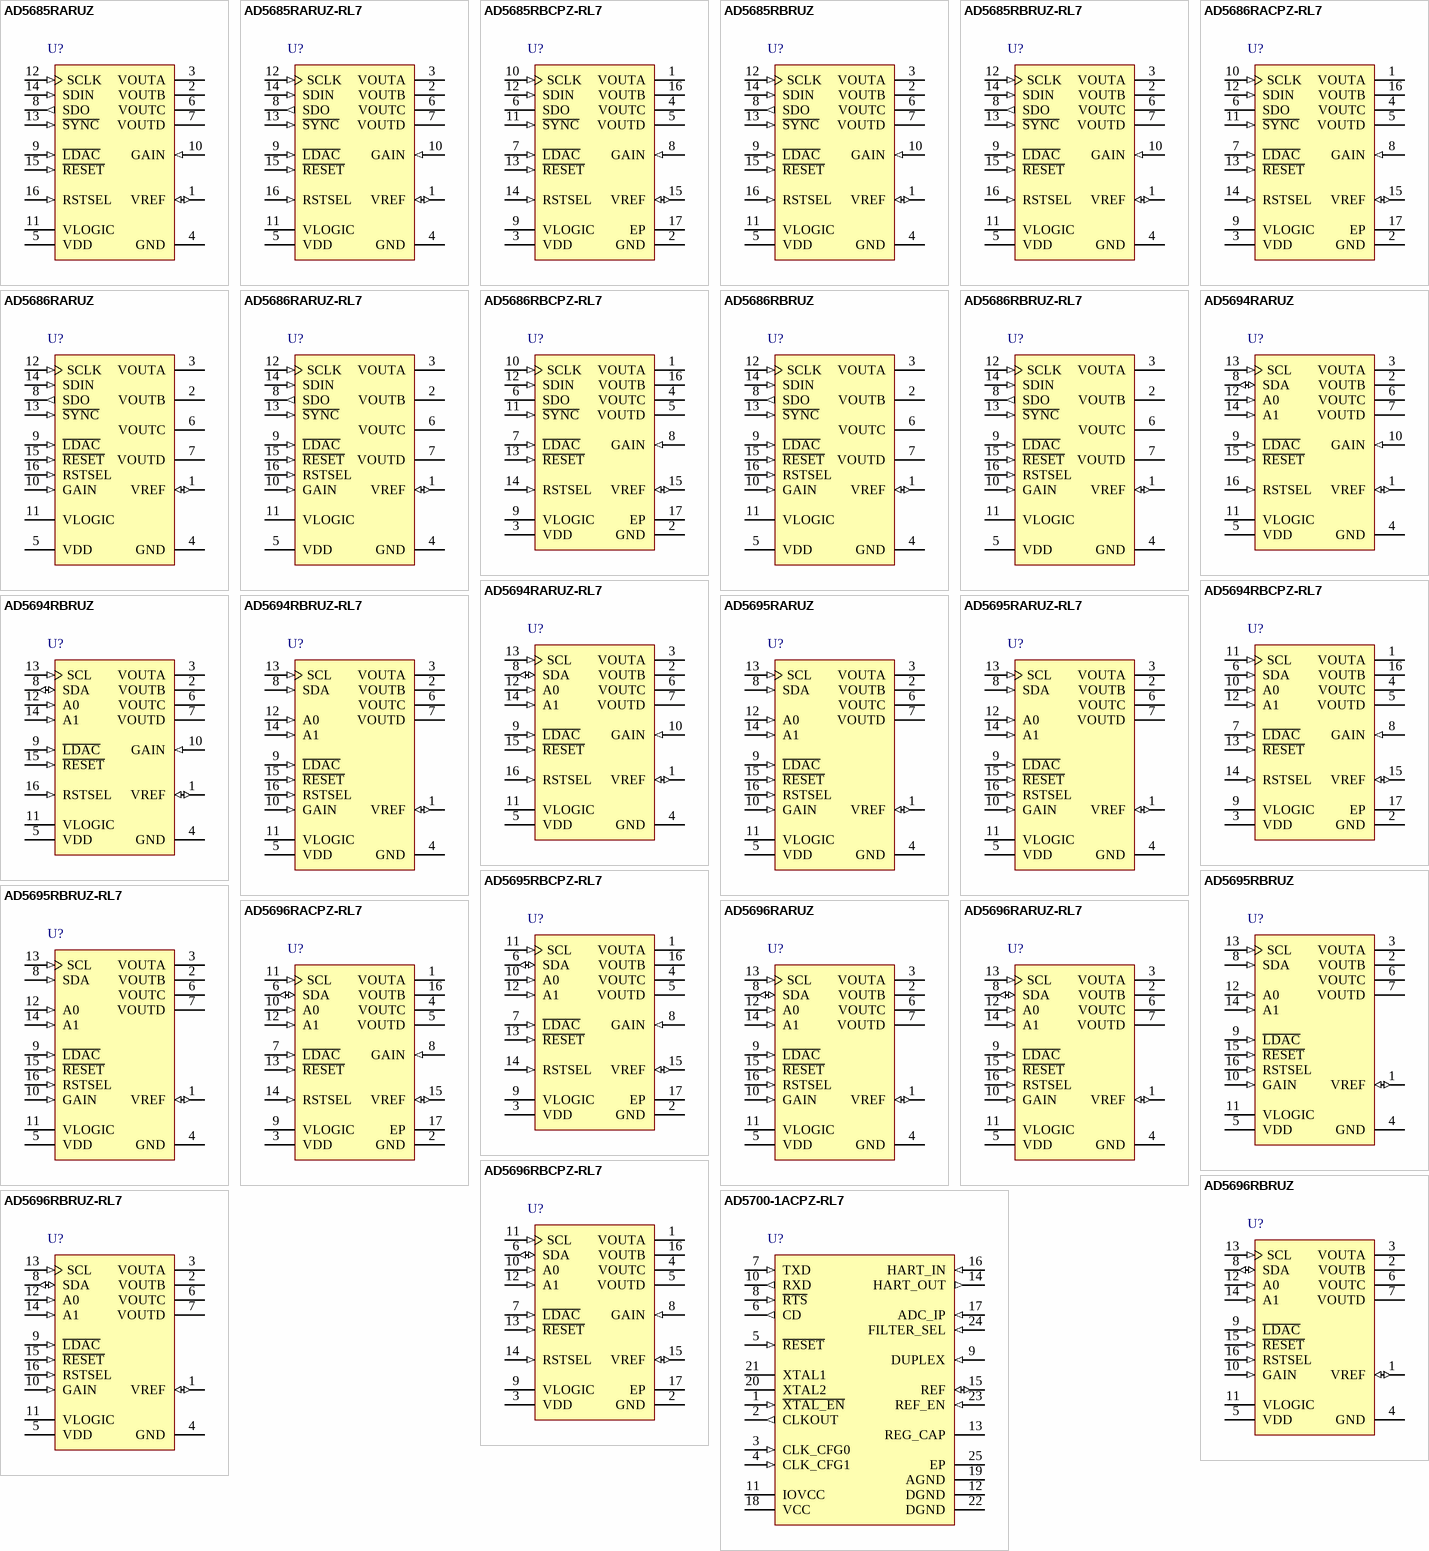
[diagram p52: symbols AD5685RARUZ to AD5700-1ACPZ-RL7]

## AD5685RARUZ
designator U?
Quad 14-Bit nanoDAC+ with SPI Interface and 2 ppm/degC On-Chip Reference, -40 to +105 degC, RU-16, Pb-Free, Tube; Generic Part Number: AD5685R; Manufacturer: Analog Devices; PartNumber: AD5685RARUZ; # DAC Outputs: 4; Max V+: 5.5V; Resolution (Bits): 14; Settling Time: 5µs; Single Supply: Yes; DatasheetVersion: Rev.0; PackageVersion: Nov-2002; PackageReference: RU-16; PackageDescription: 16-Lead Thin Shrink Small Outline Package [TSSOP]; Supplier 1: Digi-Key; Supplier Part Number 1: AD5685RARUZ-ND; Supplier 2: Farnell; Supplier Part Number 2: 2112659; Supplier 3: Newark; Supplier Part Number 3: 94T0027; Supplier 4: Mouser; Supplier Part Number 4: 584-AD5685RARUZ; Packing: Tube; RoHS: Y; Mounting Technology: Surface Mount; Code_JEDEC: MO-153-AB; ComponentLink1Description: Manufacturer URL; ComponentLink1URL: http://www.analog.com/en/index.html; ComponentLink2Description: Datasheet; ComponentLink2URL: http://www.analog.com/static/imported-files/data_sheets/AD5686R_AD5685R_AD5684R.pdf; ComponentLink3Description: Package Specification; ComponentLink3URL: http://www.analog.com/static/imported-files/packages/36244347913743854010197452789RU16.pdf; ComponentLink4Description: Product URL; ComponentLink4URL: http://www.analog.com/en/digital-to-analog-converters/da-converters/ad5685r/products/product.html
footprint RU-16_N (TSOP, 16-Leads, Body 5x4.4mm, Pitch 0.65mm, IPC Medium Density)
footprint RU-16_L (TSOP, 16-Leads, Body 5x4.4mm, Pitch 0.65mm, IPC High Density)
footprint RU-16_M (TSOP, 16-Leads, Body 5x4.4mm, Pitch 0.65mm, IPC Low Density)
pins: 1 VREF (io) "Reference Voltage. The AD5685R have a common reference pin. When using the internal reference, this is the reference output pin. When using an external reference, this is the reference input pin. The default for this pin is (See Datasheet)", 2 VOUTB (hiz) "Analog Output Voltage from DAC B. The output amplifier has rail-to-rail operation.", 3 VOUTA (hiz) "Analog Output Voltage from DAC A. The output amplifier has rail-to-rail operation.", 4 GND (power) "Ground Reference Point for All Circuitry on the Part.", 5 VDD (power) "Power Supply Input. These parts can be operated from 2.7 V to 5.5 V, and the supply should be decoupled with a 10 uF capacitor in parallel with a 0.1 uF capacitor to GND.", 6 VOUTC (hiz) "Analog Output Voltage from DAC C. The output amplifier has rail-to-rail operation.", 7 VOUTD (hiz) "Analog Output Voltage from DAC D. The output amplifier has rail-to-rail operation.", 8 SDO (out) "Serial Data Output. Can be used to daisy-chain a number of AD5686R/AD5685R/AD5684R devices together or can be used for readback. The serial data is transferred on the rising edge of SCLK and is valid on the falling edge of (See Datasheet)", 9 ~{LDAC} (in) "L\D\A\C\ can be operated in two modes, asynchronously and synchronously. Pulsing this pin low allows any or all DAC registers to be updated if the input registers have new data. This allows all DAC outputs to simultaneously (See Datasheet)", 10 GAIN (in) "Span Set Pin. When this pin is tied to GND, all four DAC outputs have a span from 0 V to VREF. If this pin is tied to VDD, all four DACs output a span of 0 V to 2 x VREF.", 11 VLOGIC (power) "Digital Power Supply. Voltage ranges from 1.8 V to 5.5 V.", 12 SCLK (in) "Serial Clock Input. Data is clocked into the input shift register on the falling edge of the serial clock input. Data can be transferred at rates of up to 50 MHz.", 13 ~{SYNC} (in) "Active Low Control Input. This is the frame synchronization signal for the input data. When S\Y\N\C\ goes low, data is transferred in on the falling edges of the next 24 clocks.", 14 SDIN (in) "Serial Data Input. This device has a 24-bit input shift register. Data is clocked into the register on the falling edge of the serial clock input.", 15 ~{RESET} (in) "Asynchronous Reset Input. The R\E\S\E\T\ input is falling edge sensitive. When R\E\S\E\T\ is low, all L\D\A\C\ pulses are ignored. When R\E\S\E\T\ is activated, the input register and the DAC register are updated with zero (See Datasheet)", 16 RSTSEL (in) "Power-On Reset Pin. Tying this pin to GND powers up all four DACs to zero scale. Tying this pin to VDD powers up all four DACs to midscale."

## AD5685RARUZ-RL7
designator U?
Quad 14-Bit nanoDAC+ with SPI Interface and 2 ppm/degC On-Chip Reference, -40 to +105 degC, RU-16, Pb-Free, Reel; Generic Part Number: AD5685R; Manufacturer: Analog Devices; PartNumber: AD5685RARUZ-RL7; # DAC Outputs: 4; Max V+: 5.5V; Resolution (Bits): 14; Settling Time: 5µs; Single Supply: Yes; DatasheetVersion: Rev.0; PackageVersion: Nov-2002; PackageReference: RU-16; PackageDescription: 16-Lead Thin Shrink Small Outline Package [TSSOP]; Supplier 1: Digi-Key; Supplier Part Number 1: AD5685RARUZ-RL7-ND; Supplier 2: Mouser; Supplier Part Number 2: 584-AD5685RARUZ-R7; Packing: Reel; RoHS: Y; Mounting Technology: Surface Mount; Code_JEDEC: MO-153-AB; ComponentLink1Description: Manufacturer URL; ComponentLink1URL: http://www.analog.com/en/index.html; ComponentLink2Description: Datasheet; ComponentLink2URL: http://www.analog.com/static/imported-files/data_sheets/AD5686R_AD5685R_AD5684R.pdf; ComponentLink3Description: Package Specification; ComponentLink3URL: http://www.analog.com/static/imported-files/packages/36244347913743854010197452789RU16.pdf; ComponentLink4Description: Product URL; ComponentLink4URL: http://www.analog.com/en/digital-to-analog-converters/da-converters/ad5685r/products/product.html
footprint RU-16_N (TSOP, 16-Leads, Body 5x4.4mm, Pitch 0.65mm, IPC Medium Density)
footprint RU-16_L (TSOP, 16-Leads, Body 5x4.4mm, Pitch 0.65mm, IPC High Density)
footprint RU-16_M (TSOP, 16-Leads, Body 5x4.4mm, Pitch 0.65mm, IPC Low Density)
pins: 1 VREF (io) "Reference Voltage. The AD5685R have a common reference pin. When using the internal reference, this is the reference output pin. When using an external reference, this is the reference input pin. The default for this pin is (See Datasheet)", 2 VOUTB (hiz) "Analog Output Voltage from DAC B. The output amplifier has rail-to-rail operation.", 3 VOUTA (hiz) "Analog Output Voltage from DAC A. The output amplifier has rail-to-rail operation.", 4 GND (power) "Ground Reference Point for All Circuitry on the Part.", 5 VDD (power) "Power Supply Input. These parts can be operated from 2.7 V to 5.5 V, and the supply should be decoupled with a 10 uF capacitor in parallel with a 0.1 uF capacitor to GND.", 6 VOUTC (hiz) "Analog Output Voltage from DAC C. The output amplifier has rail-to-rail operation.", 7 VOUTD (hiz) "Analog Output Voltage from DAC D. The output amplifier has rail-to-rail operation.", 8 SDO (out) "Serial Data Output. Can be used to daisy-chain a number of AD5686R/AD5685R/AD5684R devices together or can be used for readback. The serial data is transferred on the rising edge of SCLK and is valid on the falling edge of (See Datasheet)", 9 ~{LDAC} (in) "L\D\A\C\ can be operated in two modes, asynchronously and synchronously. Pulsing this pin low allows any or all DAC registers to be updated if the input registers have new data. This allows all DAC outputs to simultaneously (See Datasheet)", 10 GAIN (in) "Span Set Pin. When this pin is tied to GND, all four DAC outputs have a span from 0 V to VREF. If this pin is tied to VDD, all four DACs output a span of 0 V to 2 x VREF.", 11 VLOGIC (power) "Digital Power Supply. Voltage ranges from 1.8 V to 5.5 V.", 12 SCLK (in) "Serial Clock Input. Data is clocked into the input shift register on the falling edge of the serial clock input. Data can be transferred at rates of up to 50 MHz.", 13 ~{SYNC} (in) "Active Low Control Input. This is the frame synchronization signal for the input data. When S\Y\N\C\ goes low, data is transferred in on the falling edges of the next 24 clocks.", 14 SDIN (in) "Serial Data Input. This device has a 24-bit input shift register. Data is clocked into the register on the falling edge of the serial clock input.", 15 ~{RESET} (in) "Asynchronous Reset Input. The R\E\S\E\T\ input is falling edge sensitive. When R\E\S\E\T\ is low, all L\D\A\C\ pulses are ignored. When R\E\S\E\T\ is activated, the input register and the DAC register are updated with zero (See Datasheet)", 16 RSTSEL (in) "Power-On Reset Pin. Tying this pin to GND powers up all four DACs to zero scale. Tying this pin to VDD powers up all four DACs to midscale."